# EAGLE library part MAX756 (library synfinatic)
MAX756 3.3V/5V/Adjustable-Output, Step-Up DC-DC Converters
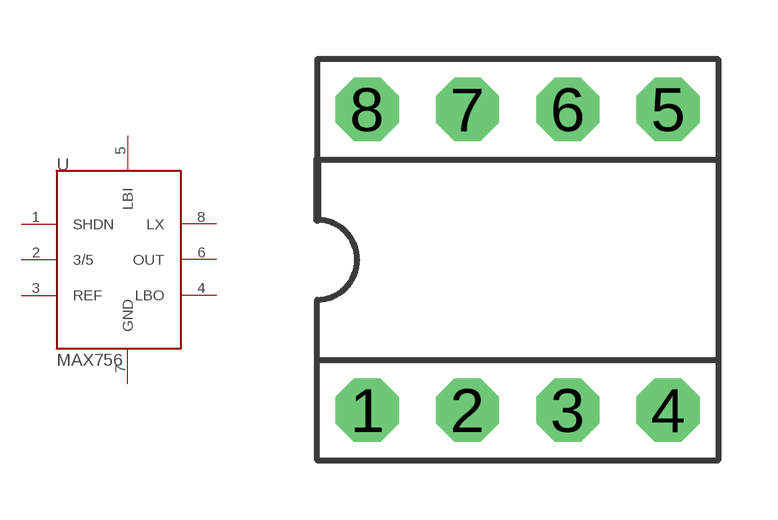
[diagram p2: symbol with the pads of DS1307-8DIP; footprint DS1307-8DIP]

Designator prefix -

## MAX756  [DS1307-8DIP]
1  SHDN
2  3/5  in
3  REF  in
4  LBO  out
5  LBI  in
6  OUT  out
7  GND  pwr
8  LX

## Footprint DS1307-8DIP (pad centres in mm)
Generic 8 pin DIP
drill 0.813 pad 1.6 octagon: 1 -3.81,-3.81; 2 -1.27,-3.81; 3 1.27,-3.81; 4 3.81,-3.81; 5 3.81,3.81; 6 1.27,3.81; 7 -1.27,3.81; 8 -3.81,3.81